# Altium schematic symbol library SCH - MCU - SI LABS - SI LABS EFM32GG11B110F2048IQ64 64-PIN QFP 10X10.SchLib: 1 symbol
Pins are listed as number, name and electrical type; pins without a type are passive.

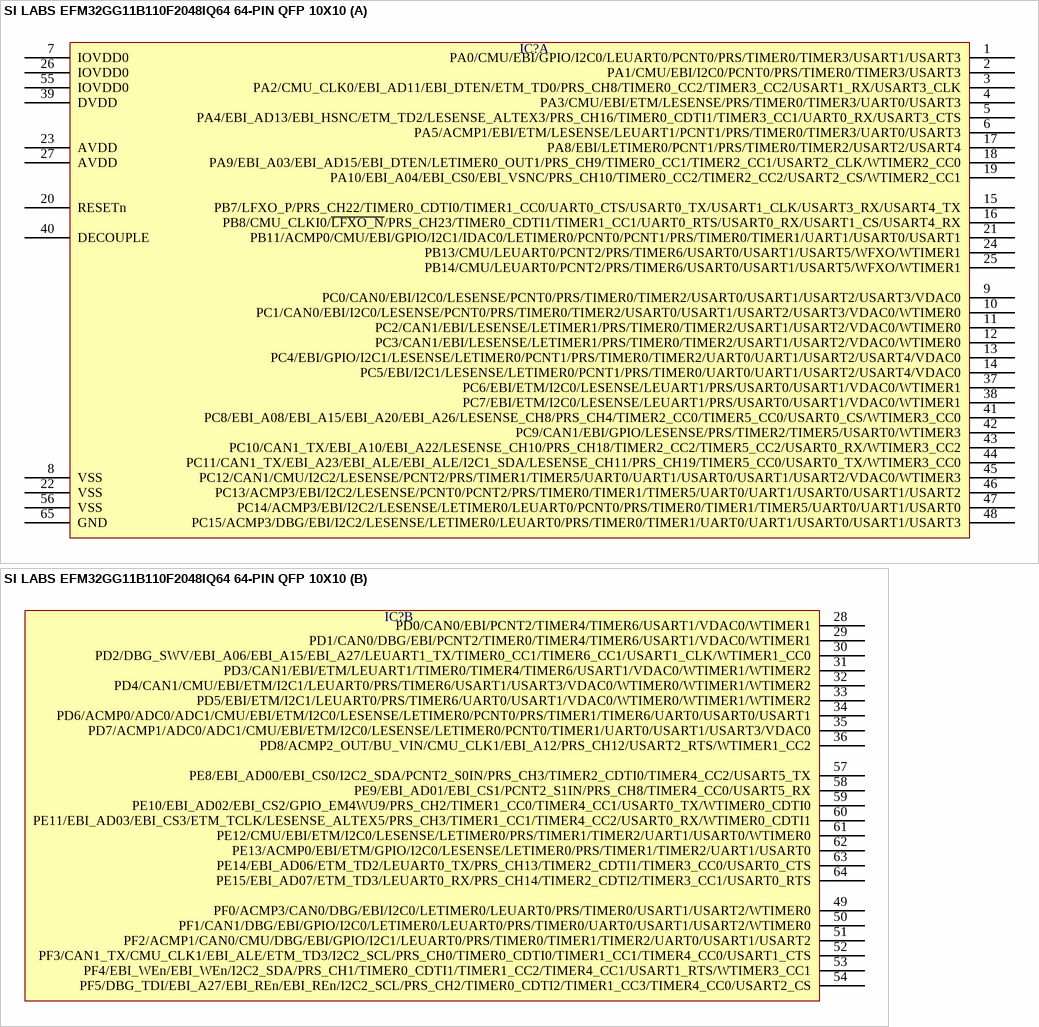
[diagram p0: symbol SI LABS EFM32GG11B110F2048IQ64 64-PIN QFP 10X10]

## SI LABS EFM32GG11B110F2048IQ64 64-PIN QFP 10X10
designator IC?  (value not drawn)
part A pins: 1 PA0/CMU/EBI/GPIO/I2C0/LEUART0/PCNT0/PRS/TIMER0/TIMER3/USART1/USART3, 2 PA1/CMU/EBI/I2C0/PCNT0/PRS/TIMER0/TIMER3/USART3, 3 PA2/CMU_CLK0/EBI_AD11/EBI_DTEN/ETM_TD0/PRS_CH8/TIMER0_CC2/TIMER3_CC2/USART1_RX/USART3_CLK, 4 PA3/CMU/EBI/ETM/LESENSE/PRS/TIMER0/TIMER3/UART0/USART3, 5 PA4/EBI_AD13/EBI_HSNC/ETM_TD2/LESENSE_ALTEX3/PRS_CH16/TIMER0_CDTI1/TIMER3_CC1/UART0_RX/USART3_CTS, 6 PA5/ACMP1/EBI/ETM/LESENSE/LEUART1/PCNT1/PRS/TIMER0/TIMER3/UART0/USART3, 7 IOVDD0, 8 VSS, 9 PC0/CAN0/EBI/I2C0/LESENSE/PCNT0/PRS/TIMER0/TIMER2/USART0/USART1/USART2/USART3/VDAC0, 10 PC1/CAN0/EBI/I2C0/LESENSE/PCNT0/PRS/TIMER0/TIMER2/USART0/USART1/USART2/USART3/VDAC0/WTIMER0, 11 PC2/CAN1/EBI/LESENSE/LETIMER1/PRS/TIMER0/TIMER2/USART1/USART2/VDAC0/WTIMER0, 12 PC3/CAN1/EBI/LESENSE/LETIMER1/PRS/TIMER0/TIMER2/USART1/USART2/VDAC0/WTIMER0, 13 PC4/EBI/GPIO/I2C1/LESENSE/LETIMER0/PCNT1/PRS/TIMER0/TIMER2/UART0/UART1/USART2/USART4/VDAC0, 14 PC5/EBI/I2C1/LESENSE/LETIMER0/PCNT1/PRS/TIMER0/UART0/UART1/USART2/USART4/VDAC0, 15 PB7/LFXO_P/PRS_CH22/TIMER0_CDTI0/TIMER1_CC0/UART0_CTS/USART0_TX/USART1_CLK/USART3_RX/USART4_TX, 16 PB8/CMU_CLKI0/~{LFXO_N}/PRS_CH23/TIMER0_CDTI1/TIMER1_CC1/UART0_RTS/USART0_RX/USART1_CS/USART4_RX, 17 PA8/EBI/LETIMER0/PCNT1/PRS/TIMER0/TIMER2/USART2/USART4, 18 PA9/EBI_A03/EBI_AD15/EBI_DTEN/LETIMER0_OUT1/PRS_CH9/TIMER0_CC1/TIMER2_CC1/USART2_CLK/WTIMER2_CC0, 19 PA10/EBI_A04/EBI_CS0/EBI_VSNC/PRS_CH10/TIMER0_CC2/TIMER2_CC2/USART2_CS/WTIMER2_CC1, 20 RESETn, 21 PB11/ACMP0/CMU/EBI/GPIO/I2C1/IDAC0/LETIMER0/PCNT0/PCNT1/PRS/TIMER0/TIMER1/UART1/USART0/USART1, 22 VSS, 23 AVDD, 24 PB13/CMU/LEUART0/PCNT2/PRS/TIMER6/USART0/USART1/USART5/WFXO/WTIMER1, 25 PB14/CMU/LEUART0/PCNT2/PRS/TIMER6/USART0/USART1/USART5/WFXO/WTIMER1, 26 IOVDD0, 27 AVDD, 37 PC6/EBI/ETM/I2C0/LESENSE/LEUART1/PRS/USART0/USART1/VDAC0/WTIMER1, 38 PC7/EBI/ETM/I2C0/LESENSE/LEUART1/PRS/USART0/USART1/VDAC0/WTIMER1, 39 DVDD, 40 DECOUPLE, 41 PC8/EBI_A08/EBI_A15/EBI_A20/EBI_A26/LESENSE_CH8/PRS_CH4/TIMER2_CC0/TIMER5_CC0/USART0_CS/WTIMER3_CC0, 42 PC9/CAN1/EBI/GPIO/LESENSE/PRS/TIMER2/TIMER5/USART0/WTIMER3, 43 PC10/CAN1_TX/EBI_A10/EBI_A22/LESENSE_CH10/PRS_CH18/TIMER2_CC2/TIMER5_CC2/USART0_RX/WTIMER3_CC2, 44 PC11/CAN1_TX/EBI_A23/EBI_ALE/EBI_ALE/I2C1_SDA/LESENSE_CH11/PRS_CH19/TIMER5_CC0/USART0_TX/WTIMER3_CC0, 45 PC12/CAN1/CMU/I2C2/LESENSE/PCNT2/PRS/TIMER1/TIMER5/UART0/UART1/USART0/USART1/USART2/VDAC0/WTIMER3, 46 PC13/ACMP3/EBI/I2C2/LESENSE/PCNT0/PCNT2/PRS/TIMER0/TIMER1/TIMER5/UART0/UART1/USART0/USART1/USART2, 47 PC14/ACMP3/EBI/I2C2/LESENSE/LETIMER0/LEUART0/PCNT0/PRS/TIMER0/TIMER1/TIMER5/UART0/UART1/USART0, 48 PC15/ACMP3/DBG/EBI/I2C2/LESENSE/LETIMER0/LEUART0/PRS/TIMER0/TIMER1/UART0/UART1/USART0/USART1/USART3, 55 IOVDD0, 56 VSS, 65 GND
part B pins: 28 PD0/CAN0/EBI/PCNT2/TIMER4/TIMER6/USART1/VDAC0/WTIMER1, 29 PD1/CAN0/DBG/EBI/PCNT2/TIMER0/TIMER4/TIMER6/USART1/VDAC0/WTIMER1, 30 PD2/DBG_SWV/EBI_A06/EBI_A15/EBI_A27/LEUART1_TX/TIMER0_CC1/TIMER6_CC1/USART1_CLK/WTIMER1_CC0, 31 PD3/CAN1/EBI/ETM/LEUART1/TIMER0/TIMER4/TIMER6/USART1/VDAC0/WTIMER1/WTIMER2, 32 PD4/CAN1/CMU/EBI/ETM/I2C1/LEUART0/PRS/TIMER6/USART1/USART3/VDAC0/WTIMER0/WTIMER1/WTIMER2, 33 PD5/EBI/ETM/I2C1/LEUART0/PRS/TIMER6/UART0/USART1/VDAC0/WTIMER0/WTIMER1/WTIMER2, 34 PD6/ACMP0/ADC0/ADC1/CMU/EBI/ETM/I2C0/LESENSE/LETIMER0/PCNT0/PRS/TIMER1/TIMER6/UART0/USART0/USART1, 35 PD7/ACMP1/ADC0/ADC1/CMU/EBI/ETM/I2C0/LESENSE/LETIMER0/PCNT0/TIMER1/UART0/USART1/USART3/VDAC0, 36 PD8/ACMP2_OUT/BU_VIN/CMU_CLK1/EBI_A12/PRS_CH12/USART2_RTS/WTIMER1_CC2, 49 PF0/ACMP3/CAN0/DBG/EBI/I2C0/LETIMER0/LEUART0/PRS/TIMER0/USART1/USART2/WTIMER0, 50 PF1/CAN1/DBG/EBI/GPIO/I2C0/LETIMER0/LEUART0/PRS/TIMER0/UART0/USART1/USART2/WTIMER0, 51 PF2/ACMP1/CAN0/CMU/DBG/EBI/GPIO/I2C1/LEUART0/PRS/TIMER0/TIMER1/TIMER2/UART0/USART1/USART2, 52 PF3/CAN1_TX/CMU_CLK1/EBI_ALE/ETM_TD3/I2C2_SCL/PRS_CH0/TIMER0_CDTI0/TIMER1_CC1/TIMER4_CC0/USART1_CTS, 53 PF4/EBI_WEn/EBI_WEn/I2C2_SDA/PRS_CH1/TIMER0_CDTI1/TIMER1_CC2/TIMER4_CC1/USART1_RTS/WTIMER3_CC1, 54 PF5/DBG_TDI/EBI_A27/EBI_REn/EBI_REn/I2C2_SCL/PRS_CH2/TIMER0_CDTI2/TIMER1_CC3/TIMER4_CC0/USART2_CS, 57 PE8/EBI_AD00/EBI_CS0/I2C2_SDA/PCNT2_S0IN/PRS_CH3/TIMER2_CDTI0/TIMER4_CC2/USART5_TX, 58 PE9/EBI_AD01/EBI_CS1/PCNT2_S1IN/PRS_CH8/TIMER4_CC0/USART5_RX, 59 PE10/EBI_AD02/EBI_CS2/GPIO_EM4WU9/PRS_CH2/TIMER1_CC0/TIMER4_CC1/USART0_TX/WTIMER0_CDTI0, 60 PE11/EBI_AD03/EBI_CS3/ETM_TCLK/LESENSE_ALTEX5/PRS_CH3/TIMER1_CC1/TIMER4_CC2/USART0_RX/WTIMER0_CDTI1, 61 PE12/CMU/EBI/ETM/I2C0/LESENSE/LETIMER0/PRS/TIMER1/TIMER2/UART1/USART0/WTIMER0, 62 PE13/ACMP0/EBI/ETM/GPIO/I2C0/LESENSE/LETIMER0/PRS/TIMER1/TIMER2/UART1/USART0, 63 PE14/EBI_AD06/ETM_TD2/LEUART0_TX/PRS_CH13/TIMER2_CDTI1/TIMER3_CC0/USART0_CTS, 64 PE15/EBI_AD07/ETM_TD3/LEUART0_RX/PRS_CH14/TIMER2_CDTI2/TIMER3_CC1/USART0_RTS